# Altium footprint library 2020-09-10_22-14-01.PcbLib: 3 footprints
Each footprint in its own frame and in the unit in brackets; x right, y up, seen from the top. Pads: shape width x height; smd on the part's side, far side on the other; paste and mask are expansions set on the pad; w line width, h text height; cw(c..) or ccw(c..) is an arc to the next point about the centre after c.
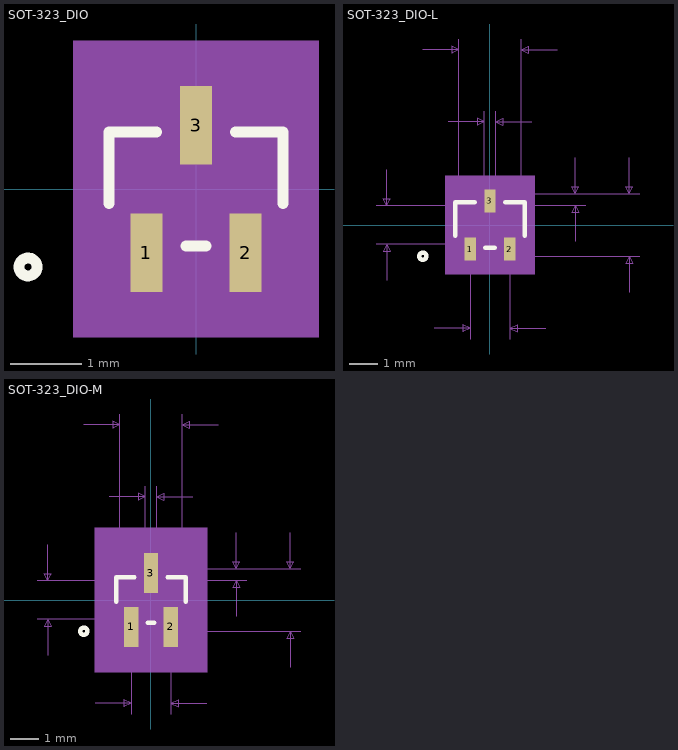
[diagram p0: the footprints below, top view; thin cyan lines are the x and y axes]

## SOT-323_DIO [mm]
pads (3):
  rect 0.451x1.111 smd paste+0 mask+0: 1(-0.7,-0.9) 2(0.7,-0.9) 3(0,0.9)
Top Overlay:
  circle w0.152: c-2.37,-1.1 r0.127
  lines w0.152: -1.227,-0.204 -1.227,0.802 -0.558,0.802 ; -0.142,-0.802 0.142,-0.802 ; 0.558,0.802 1.227,0.802 1.227,-0.204
Mechanical 5:
  region: -1.735,2.091 1.735,2.091 1.735,-2.091 -1.735,-2.091
Mechanical 13:
  circle w0: c-0.846,-0.421 r0.127
  lines w0.025: -1.1,-0.675 -1.1,0.675 1.1,0.675 1.1,-0.675 -1.1,-0.675 ; -0.9,-1.1 -0.5,-1.1 -0.5,-0.675 -0.9,-0.675 -0.9,-1.1 ; -0.2,0.675 -0.2,1.1 0.2,1.1 0.2,0.675 -0.2,0.675 ; 0.5,-1.1 0.9,-1.1 0.9,-0.675 0.5,-0.675 0.5,-1.1
Mechanical 15:
  region: 1.1,-0.675 -1.1,-0.675 -1.1,0.675 1.1,0.675
  region: -1.354,-0.929 -1.354,0.929 -0.479,0.929 -0.479,1.71 0.479,1.71 0.479,0.929 1.354,0.929 1.354,-0.929 1.179,-0.929 1.179,-1.71 -1.179,-1.71 -1.179,-0.929
  lines w0.152: -1.354,-0.929 -1.179,-0.929 -1.179,-1.71 1.179,-1.71 1.179,-0.929 1.354,-0.929 1.354,0.929 0.479,0.929 0.479,1.71 -0.479,1.71 -0.479,0.929 -1.354,0.929 -1.354,-0.929
3D body: height 0.25, standoff 0, extent 0,0 0.254,0.254

## SOT-323_DIO-L [mm]
pads (3):
  rect 0.4x0.806 smd paste+0 mask+0: 1(-0.7,-0.849) 2(0.7,-0.849) 3(0,0.849)
Top Overlay:
  circle w0.152: c-2.37,-1.1 r0.127
  lines w0.152: -1.227,-0.384 -1.227,0.802 -0.533,0.802 ; -0.167,-0.802 0.167,-0.802 ; 0.533,0.802 1.227,0.802 1.227,-0.384
Mechanical 5:
  region: -1.583,1.735 1.583,1.735 1.583,-1.735 -1.583,-1.735
Mechanical 7:
  lines w0.025: -4.021,-0.675 0,-0.675 ; -4.021,0.675 0,0.675 ; -3.64,-1.945 -3.64,-0.675 ; -3.64,1.945 -3.64,0.675 ; -2.37,6.18 -1.1,6.18 ; -1.97,-3.64 -0.7,-3.64 ; -1.47,3.64 -0.2,3.64 ; -1.1,0.675 -1.1,6.561 ; -0.7,-4.021 -0.7,-1.1 ; -0.2,1.1 -0.2,4.021 ; 0,-1.1 5.291,-1.1 ; 0,0.7 3.386,0.7 ; 0.2,1.1 0.2,4.021 ; 0.7,-4.021 0.7,-1.1 ; 1.1,0.675 1.1,6.561 ; 1.47,3.64 0.2,3.64 ; 1.97,-3.64 0.7,-3.64 ; 2.37,6.18 1.1,6.18 ; 3.005,-0.57 3.005,0.7 ; 3.005,2.37 3.005,1.1 ; 3.386,1.1 0,1.1 5.291,1.1 ; 4.91,-2.37 4.91,-1.1 ; 4.91,2.37 4.91,1.1 ; -3.64,-0.675 -3.767,-0.929 -3.513,-0.929 -3.64,-0.675 ; -3.64,0.675 -3.767,0.929 -3.513,0.929 -3.64,0.675 ; -1.1,6.18 -1.354,6.307 -1.354,6.053 -1.1,6.18 ; -0.7,-3.64 -0.954,-3.513 -0.954,-3.767 -0.7,-3.64 ; -0.2,3.64 -0.454,3.767 -0.454,3.513 -0.2,3.64 ; 0.2,3.64 0.454,3.767 0.454,3.513 0.2,3.64 ; 0.7,-3.64 0.954,-3.513 0.954,-3.767 0.7,-3.64 ; 1.1,6.18 1.354,6.307 1.354,6.053 1.1,6.18 ; 3.005,0.7 2.878,0.446 3.132,0.446 3.005,0.7 ; 3.005,1.1 2.878,1.354 3.132,1.354 3.005,1.1 ; 4.91,-1.1 4.783,-1.354 5.037,-1.354 4.91,-1.1 ; 4.91,1.1 4.783,1.354 5.037,1.354 4.91,1.1
  text "Top Padstyle: RX15p75Y31p75D0T" at -9.525,-7.602 h1.27
  text "Bottom Padstyle: RX15p75Y31p75D0T" at -10.477,-9.507 h1.27
  text "Alt 1 Padstyle: OX60Y90D30P" at -8.572,-11.412 h1.27
  text "Alt 2 Padstyle: OX90Y60D30P" at -8.572,-13.317 h1.27
  text "0.087in/2.2mm" at 5.418,-0.318 h0.64
  text "0.016in/0.4mm" at 3.513,0.583 h0.64
  text "0.055in/1.4mm" at -2.064,-4.783 h0.64
  text "0.016in/0.4mm" at -2.064,4.148 h0.64
  text "0.087in/2.2mm" at -2.064,6.688 h0.64
  text "0.053in/1.35mm" at -8.593,-0.318 h0.64
Mechanical 13:
  circle w0: c-0.846,-0.421 r0.127
  lines w0.025: -1.1,-0.675 1.1,-0.675 1.1,0.675 -1.1,0.675 -1.1,-0.675 ; -0.9,-1.1 -0.9,-0.675 -0.5,-0.675 -0.5,-1.1 -0.9,-1.1 ; -0.2,0.675 0.2,0.675 0.2,1.1 -0.2,1.1 -0.2,0.675 ; 0.5,-1.1 0.5,-0.675 0.9,-0.675 0.9,-1.1 0.5,-1.1
Mechanical 15:
  region: -1.202,-0.777 -1.202,0.777 -0.302,0.777 -0.302,1.354 0.302,1.354 0.302,0.777 1.202,0.777 1.202,-0.777 1.002,-0.777 1.002,-1.354 -1.002,-1.354 -1.002,-0.777
  region: 1.1,-0.675 -1.1,-0.675 -1.1,0.675 1.1,0.675
  lines w0.152: -1.202,-0.777 -1.202,0.777 -0.302,0.777 -0.302,1.354 0.302,1.354 0.302,0.777 1.202,0.777 1.202,-0.777 1.002,-0.777 1.002,-1.354 -1.002,-1.354 -1.002,-0.777 -1.202,-0.777
3D body: height 0.25, standoff 0, extent 0,0 0.254,0.254

## SOT-323_DIO-M [mm]
pads (3):
  rect 0.502x1.416 smd paste+0 mask+0: 1(-0.7,-0.951) 2(0.7,-0.951) 3(0,0.951)
Top Overlay:
  circle w0.152: c-2.37,-1.1 r0.127
  lines w0.152: -1.227,-0.057 -1.227,0.802 -0.584,0.802 ; -0.116,-0.802 0.116,-0.802 ; 0.584,0.802 1.227,0.802 1.227,-0.057
Mechanical 5:
  region: -1.989,2.548 1.989,2.548 1.989,-2.548 -1.989,-2.548
Mechanical 7:
  lines w0.025: -4.021,-0.675 0,-0.675 ; -4.021,0.675 0,0.675 ; -3.64,-1.945 -3.64,-0.675 ; -3.64,1.945 -3.64,0.675 ; -2.37,6.18 -1.1,6.18 ; -1.97,-3.64 -0.7,-3.64 ; -1.47,3.64 -0.2,3.64 ; -1.1,0.675 -1.1,6.561 ; -0.7,-4.021 -0.7,-1.1 ; -0.2,1.1 -0.2,4.021 ; 0,-1.1 5.291,-1.1 ; 0,0.7 3.386,0.7 ; 0.2,1.1 0.2,4.021 ; 0.7,-4.021 0.7,-1.1 ; 1.1,0.675 1.1,6.561 ; 1.47,3.64 0.2,3.64 ; 1.97,-3.64 0.7,-3.64 ; 2.37,6.18 1.1,6.18 ; 3.005,-0.57 3.005,0.7 ; 3.005,2.37 3.005,1.1 ; 3.386,1.1 0,1.1 5.291,1.1 ; 4.91,-2.37 4.91,-1.1 ; 4.91,2.37 4.91,1.1 ; -3.64,-0.675 -3.767,-0.929 -3.513,-0.929 -3.64,-0.675 ; -3.64,0.675 -3.767,0.929 -3.513,0.929 -3.64,0.675 ; -1.1,6.18 -1.354,6.307 -1.354,6.053 -1.1,6.18 ; -0.7,-3.64 -0.954,-3.513 -0.954,-3.767 -0.7,-3.64 ; -0.2,3.64 -0.454,3.767 -0.454,3.513 -0.2,3.64 ; 0.2,3.64 0.454,3.767 0.454,3.513 0.2,3.64 ; 0.7,-3.64 0.954,-3.513 0.954,-3.767 0.7,-3.64 ; 1.1,6.18 1.354,6.307 1.354,6.053 1.1,6.18 ; 3.005,0.7 2.878,0.446 3.132,0.446 3.005,0.7 ; 3.005,1.1 2.878,1.354 3.132,1.354 3.005,1.1 ; 4.91,-1.1 4.783,-1.354 5.037,-1.354 4.91,-1.1 ; 4.91,1.1 4.783,1.354 5.037,1.354 4.91,1.1
  text "Top Padstyle: RX19p75Y55p75D0T" at -9.525,-8.009 h1.27
  text "Bottom Padstyle: RX19p75Y55p75D0T" at -10.477,-9.914 h1.27
  text "Alt 1 Padstyle: OX60Y90D30P" at -8.572,-11.819 h1.27
  text "Alt 2 Padstyle: OX90Y60D30P" at -8.572,-13.724 h1.27
  text "0.087in/2.2mm" at 5.418,-0.318 h0.64
  text "0.016in/0.4mm" at 3.513,0.583 h0.64
  text "0.055in/1.4mm" at -2.064,-4.783 h0.64
  text "0.016in/0.4mm" at -2.064,4.148 h0.64
  text "0.087in/2.2mm" at -2.064,6.688 h0.64
  text "0.053in/1.35mm" at -8.593,-0.318 h0.64
Mechanical 13:
  circle w0: c-0.846,-0.421 r0.127
  lines w0.025: -1.1,-0.675 1.1,-0.675 1.1,0.675 -1.1,0.675 -1.1,-0.675 ; -0.9,-1.1 -0.9,-0.675 -0.5,-0.675 -0.5,-1.1 -0.9,-1.1 ; -0.2,0.675 0.2,0.675 0.2,1.1 -0.2,1.1 -0.2,0.675 ; 0.5,-1.1 0.5,-0.675 0.9,-0.675 0.9,-1.1 0.5,-1.1
Mechanical 15:
  region: -1.608,-1.183 -1.608,1.183 -0.759,1.183 -0.759,2.167 0.759,2.167 0.759,1.183 1.608,1.183 1.608,-1.183 1.459,-1.183 1.459,-2.167 -1.459,-2.167 -1.459,-1.183
  region: 1.1,-0.675 -1.1,-0.675 -1.1,0.675 1.1,0.675
  lines w0.152: -1.608,-1.183 -1.608,1.183 -0.759,1.183 -0.759,2.167 0.759,2.167 0.759,1.183 1.608,1.183 1.608,-1.183 1.459,-1.183 1.459,-2.167 -1.459,-2.167 -1.459,-1.183 -1.608,-1.183
3D body: height 0.25, standoff 0, extent 0,0 0.254,0.254